# Altium footprint library TSSOP封装.PcbLib: 26 footprints (part 1 of 2)
Each footprint in its own frame and in the unit in brackets; x right, y up, seen from the top. Pads: shape width x height; smd on the part's side, far side on the other; paste and mask are expansions set on the pad; w line width, h text height; cw(c..) or ccw(c..) is an arc to the next point about the centre after c.
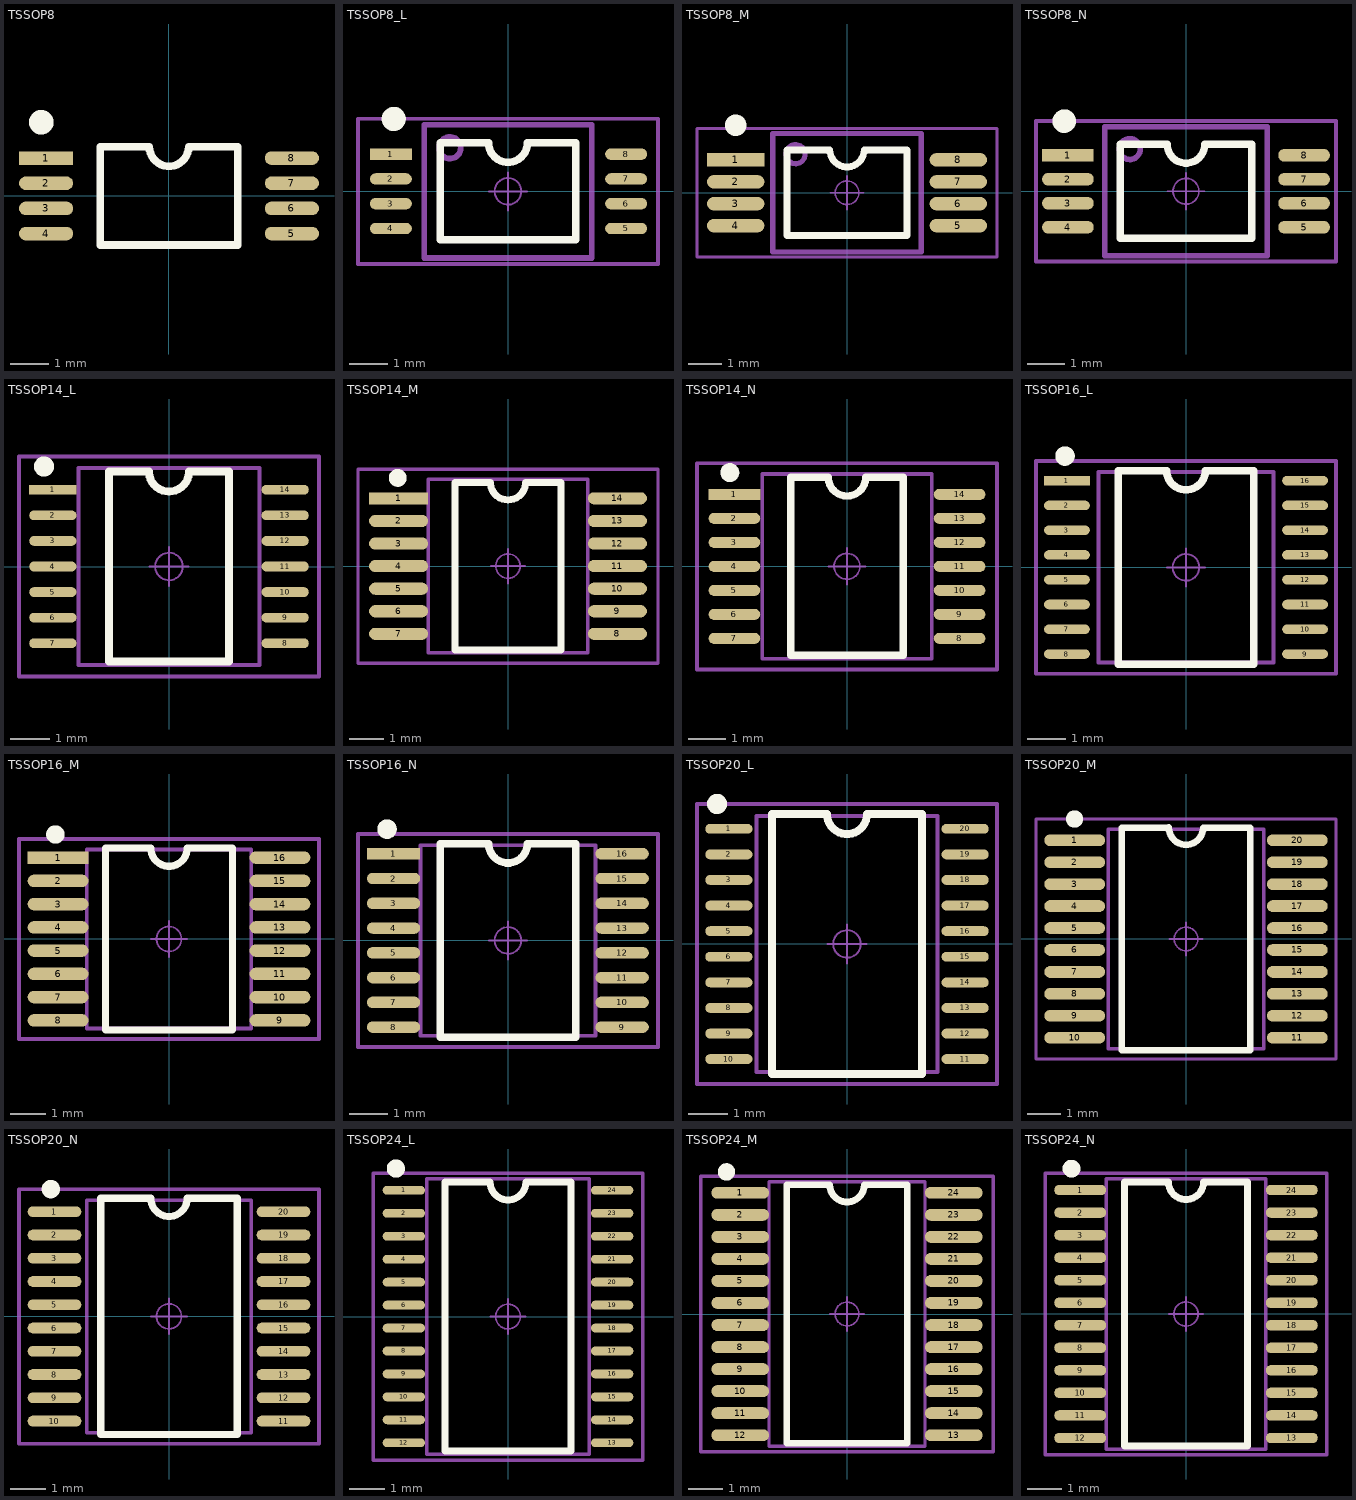
[diagram p0: the footprints below, top view; thin cyan lines are the x and y axes]

## TSSOP8 [mm] "3*6.4*1.2mm 封装库来自公众号：智芯Player"
pads (8):
  rect 1.4x0.35 smd: 1(-3.175,0.975)
  oval 1.4x0.35 smd: 2(-3.175,0.325) 3(-3.175,-0.325) 4(-3.175,-0.975) 5(3.175,-0.975) 6(3.175,-0.325) 7(3.175,0.325) 8(3.175,0.975)
Top Overlay:
  circle w0.381: c-3.3,1.9 r0.127
  lines w0.2: -1.778,-1.27 -1.778,1.27 -0.508,1.27 ccw(c0,1.27) 0.508,1.27 1.778,1.27 1.778,-1.27 -1.778,-1.27
3D body "User Library-TSS0P8.STEP": height 1.09, standoff 0, extent -3.112,-1.59 3.168,1.41

## TSSOP8_L [mm] "3*6.4*1.2mm（长宽高） 封装库来自公众号：智芯Player"
pads (8):
  rect 1.1x0.3 smd: 1(-3.087,0.975)
  oval 1.1x0.3 smd: 2(-3.087,0.325) 3(-3.087,-0.325) 4(-3.087,-0.975) 5(3.087,-0.975) 6(3.087,-0.325) 7(3.087,0.325) 8(3.087,0.975)
Top Overlay:
  circle w0.381: c-3.012,1.9 r0.127
  lines w0.2: -1.79,-1.27 -1.79,1.27 -0.52,1.27 ccw(c-0.012,1.27) 0.496,1.27 1.766,1.27 1.766,-1.27 -1.79,-1.27
Mechanical 13:
  circle w0.15: c-1.536,1.143 r0.284
  lines w0.15: -2.213,-1.75 -2.213,1.75 2.188,1.75 2.188,-1.75 -2.213,-1.75
Mechanical 15:
  circle w0.05: c-0.012,0 r0.35
  lines w0.05: -0.512,0 0.487,0 ; -0.012,-0.5 -0.012,0.5
  lines w0.1: -3.949,-1.905 3.925,-1.905 3.925,1.905 -3.949,1.905 -3.949,-1.905
3D body "User Library-TSS0P8.STEP": height 1.09, standoff 0, extent -3.099,-1.59 3.181,1.41

## TSSOP8_M [mm] "3*6.4*1.2mm（长宽高）   封装库来自公众号：智芯Player"
pads (8):
  rect 1.7x0.4 smd: 1(-3.3,0.975)
  oval 1.7x0.4 smd: 2(-3.3,0.325) 3(-3.3,-0.325) 4(-3.3,-0.975) 5(3.3,-0.975) 6(3.3,-0.325) 7(3.3,0.325) 8(3.3,0.975)
Top Overlay:
  circle w0.381: c-3.3,2 r0.127
  lines w0.2: -1.778,-1.27 1.778,-1.27 1.778,1.27 0.508,1.27 cw(c0,1.27) -0.508,1.27 -1.778,1.27 -1.778,-1.27
Mechanical 13:
  circle w0.15: c-1.524,1.143 r0.284
  lines w0.15: -2.2,-1.75 -2.2,1.75 2.2,1.75 2.2,-1.75 -2.2,-1.75
Mechanical 15:
  circle w0.05: c0,0 r0.35
  lines w0.05: -0.5,0 0.5,0 ; 0,-0.5 0,0.5
  lines w0.1: -4.445,-1.905 -4.445,1.905 4.445,1.905 4.445,-1.905 -4.445,-1.905
3D body "User Library-TSS0P8.STEP": height 1.09, standoff 0, extent -3.188,-1.565 3.092,1.435

## TSSOP8_N [mm] "3*6.4*1.2mm（长宽高）封装库来自公众号：智芯Player"
pads (8):
  rect 1.4x0.35 smd: 1(-3.2,0.975)
  oval 1.4x0.35 smd: 2(-3.2,0.325) 3(-3.2,-0.325) 4(-3.2,-0.975) 5(3.2,-0.975) 6(3.2,-0.325) 7(3.2,0.325) 8(3.2,0.975)
Top Overlay:
  circle w0.381: c-3.3,1.9 r0.127
  lines w0.2: -1.778,-1.27 1.778,-1.27 1.778,1.27 0.508,1.27 cw(c0,1.27) -0.508,1.27 -1.778,1.27 -1.778,-1.27
Mechanical 13:
  circle w0.15: c-1.524,1.143 r0.284
  lines w0.15: -2.2,-1.75 2.2,-1.75 2.2,1.75 -2.2,1.75 -2.2,-1.75
Mechanical 15:
  circle w0.05: c0,0 r0.35
  lines w0.05: -0.5,0 0.5,0 ; 0,-0.5 0,0.5
  lines w0.1: -4.064,-1.905 -4.064,1.905 4.064,1.905 4.064,-1.905 3.429,-1.905 -4.064,-1.905
3D body "User Library-TSS0P8.STEP": height 1.09, standoff 0, extent -3.137,-1.565 3.143,1.435

## TSSOP14_L [mm] "5*6.4*1mm（长宽高）封装库来自公众号：智芯Player"
pads (14):
  rect 1.2x0.25 smd: 1(-2.95,1.95)
  oval 1.2x0.25 smd: 2(-2.95,1.3) 3(-2.95,0.65) 4(-2.95,0) 5(-2.95,-0.65) 6(-2.95,-1.3) 7(-2.95,-1.95) 8(2.95,-1.95) 9(2.95,-1.3) 10(2.95,-0.65) 11(2.95,0) 12(2.95,0.65) 13(2.95,1.3) 14(2.95,1.95)
Top Overlay:
  circle w0.254: c-3.175,2.54 r0.13
  lines w0.2: -0.508,2.413 -1.524,2.413 -1.524,-2.413 1.524,-2.413 1.524,2.413 0.508,2.413 ; -0.506,2.373 ccw(c0,2.413) 0.506,2.373
Mechanical 13:
  lines w0.1: -2.3,-2.5 2.3,-2.5 2.3,2.5 -2.3,2.5 -2.3,-2.5
Mechanical 15:
  circle w0.05: c0,0 r0.35
  lines w0.05: -0.5,0 0.5,0 ; 0,-0.5 0,0.5
  lines w0.1: -3.81,-2.794 3.81,-2.794 3.81,2.794 -3.81,2.794 -3.81,-2.794
3D body "TSSOP14.STEP": height 1.03, standoff -0.02, extent -3.202,-2.5 3.202,2.5

## TSSOP14_M [mm] "5*6.4*1mm（长宽高）封装库来自公众号：智芯Player"
pads (14):
  rect 1.7x0.35 smd: 1(-3.15,1.95)
  oval 1.7x0.35 smd: 2(-3.15,1.3) 3(-3.15,0.65) 4(-3.15,0) 5(-3.15,-0.65) 6(-3.15,-1.3) 7(-3.15,-1.95) 8(3.15,-1.95) 9(3.15,-1.3) 10(3.15,-0.65) 11(3.15,0) 12(3.15,0.65) 13(3.15,1.3) 14(3.15,1.95)
Top Overlay:
  circle w0.254: c-3.175,2.54 r0.13
  lines w0.2: -0.508,2.413 -1.524,2.413 -1.524,-2.413 1.524,-2.413 1.524,2.413 0.508,2.413 ; -0.506,2.373 ccw(c0,2.413) 0.506,2.373
Mechanical 13:
  lines w0.1: -2.3,-2.5 -2.3,2.5 2.3,2.5 2.3,-2.5 -2.3,-2.5
Mechanical 15:
  circle w0.05: c0,0 r0.35
  lines w0.05: -0.5,0 0.5,0 ; 0,-0.5 0,0.5
  lines w0.1: -4.318,-2.794 -4.318,2.794 4.318,2.794 4.318,-2.794 -4.318,-2.794
3D body "TSSOP14.STEP": height 1.03, standoff -0.02, extent -3.202,-2.5 3.202,2.5

## TSSOP14_N [mm] "5*6.4*1mm（长宽高）封装库来自公众号：智芯Player"
pads (14):
  rect 1.4x0.3 smd: 1(-3.05,1.95)
  oval 1.4x0.3 smd: 2(-3.05,1.3) 3(-3.05,0.65) 4(-3.05,0) 5(-3.05,-0.65) 6(-3.05,-1.3) 7(-3.05,-1.95) 8(3.05,-1.95) 9(3.05,-1.3) 10(3.05,-0.65) 11(3.05,0) 12(3.05,0.65) 13(3.05,1.3) 14(3.05,1.95)
Top Overlay:
  circle w0.254: c-3.175,2.54 r0.13
  lines w0.2: -0.508,2.413 -1.524,2.413 -1.524,-2.413 1.524,-2.413 1.524,2.413 0.508,2.413 ; -0.506,2.373 ccw(c0,2.413) 0.506,2.373
Mechanical 13:
  lines w0.1: -2.3,-2.5 2.3,-2.5 2.3,2.5 -2.3,2.5 -2.3,-2.5
Mechanical 15:
  circle w0.05: c0,0 r0.35
  lines w0.05: -0.5,0 0.5,0 ; 0,-0.5 0,0.5
  lines w0.1: -4.064,-2.794 4.064,-2.794 4.064,2.794 -4.064,2.794 -4.064,-2.794
3D body "TSSOP14.STEP": height 1.03, standoff -0.02, extent -3.202,-2.5 3.202,2.5

## TSSOP16_L [mm] "5*6.4*1mm（长宽高） 封装库来自公众号：智芯Player"
pads (16):
  rect 1.2x0.25 smd: 1(-3.125,2.275)
  oval 1.2x0.25 smd: 2(-3.125,1.625) 3(-3.125,0.975) 4(-3.125,0.325) 5(-3.125,-0.325) 6(-3.125,-0.975) 7(-3.125,-1.625) 8(-3.125,-2.275) 9(3.125,-2.275) 10(3.125,-1.625) 11(3.125,-0.975) 12(3.125,-0.325) 13(3.125,0.325) 14(3.125,0.975) 15(3.125,1.625) 16(3.125,2.275)
Top Overlay:
  circle w0.254: c-3.175,2.921 r0.13
  lines w0.2: -1.778,-2.54 1.778,-2.54 1.778,2.54 0.508,2.54 cw(c0,2.54) -0.508,2.54 -1.778,2.54 -1.778,-2.54
Mechanical 13:
  lines w0.1: -2.3,-2.5 -2.3,2.5 2.3,2.5 2.3,-2.5 -2.3,-2.5
Mechanical 15:
  circle w0.05: c0,0 r0.35
  lines w0.05: -0.5,0 0.5,0 ; 0,-0.5 0,0.5
  lines w0.1: -3.937,-2.794 3.937,-2.794 3.937,2.794 -3.937,2.794 -3.937,-2.794
3D body "TSSOP16.STEP": height 1.03, standoff -0.02, extent -3.202,-2.5 3.202,2.5

## TSSOP16_M [mm] "5*6.4*1mm（长宽高） 封装库来自公众号：智芯Player"
pads (16):
  rect 1.7x0.35 smd: 1(-3.1,2.275)
  oval 1.7x0.35 smd: 2(-3.1,1.625) 3(-3.1,0.975) 4(-3.1,0.325) 5(-3.1,-0.325) 6(-3.1,-0.975) 7(-3.1,-1.625) 8(-3.1,-2.275) 9(3.1,-2.275) 10(3.1,-1.625) 11(3.1,-0.975) 12(3.1,-0.325) 13(3.1,0.325) 14(3.1,0.975) 15(3.1,1.625) 16(3.1,2.275)
Top Overlay:
  circle w0.254: c-3.175,2.921 r0.13
  lines w0.2: -1.778,-2.54 -1.778,2.54 -0.508,2.54 ccw(c0,2.54) 0.508,2.54 1.778,2.54 1.778,-2.54 -1.778,-2.54
Mechanical 13:
  lines w0.1: -2.3,-2.5 2.3,-2.5 2.3,2.5 -2.3,2.5 -2.3,-2.5
Mechanical 15:
  circle w0.05: c0,0 r0.35
  lines w0.05: -0.5,0 0.5,0 ; 0,-0.5 0,0.5
  lines w0.1: -4.191,-2.794 4.191,-2.794 4.191,2.794 -4.191,2.794 -4.191,-2.794
3D body "TSSOP16.STEP": height 1.03, standoff -0.02, extent -3.202,-2.5 3.202,2.5

## TSSOP16_N [mm] "5*6.4*1mm（长宽高） 封装库来自公众号：智芯Player"
pads (16):
  rect 1.4x0.3 smd: 1(-3.004,2.275)
  oval 1.4x0.3 smd: 2(-3.004,1.625) 3(-3.004,0.975) 4(-3.004,0.325) 5(-3.004,-0.325) 6(-3.004,-0.975) 7(-3.004,-1.625) 8(-3.004,-2.275) 9(2.996,-2.275) 10(2.996,-1.625) 11(2.996,-0.975) 12(2.996,-0.325) 13(2.996,0.325) 14(2.996,0.975) 15(2.996,1.625) 16(2.996,2.275)
Top Overlay:
  circle w0.254: c-3.175,2.921 r0.13
  lines w0.2: -1.778,-2.54 -1.778,2.54 -0.508,2.54 ccw(c0,2.54) 0.508,2.54 1.778,2.54 1.778,-2.54 -1.778,-2.54
Mechanical 13:
  lines w0.1: -2.3,-2.5 -2.3,2.5 2.3,2.5 2.3,-2.5 -2.3,-2.5
Mechanical 15:
  circle w0.05: c0,0 r0.35
  lines w0.05: -0.5,0 0.5,0 ; 0,-0.5 0,0.5
  lines w0.1: -3.937,-2.794 3.937,-2.794 3.937,2.794 -3.937,2.794 -3.937,-2.794
3D body "TSSOP16.STEP": height 1.03, standoff -0.02, extent -3.202,-2.5 3.202,2.5

## TSSOP20_L [mm] "6.5*6.4*1（长宽高） 封装库来自公众号：智芯Player"
height 1.2
pads (20):
  oval 1.2x0.25 smd: 1(-3,2.925) 2(-3,2.275) 3(-3,1.625) 4(-3,0.975) 5(-3,0.325) 6(-3,-0.325) 7(-3,-0.975) 8(-3,-1.625) 9(-3,-2.275) 10(-3,-2.925) 11(3,-2.925) 12(3,-2.275) 13(3,-1.625) 14(3,-0.975) 15(3,-0.325) 16(3,0.325) 17(3,0.975) 18(3,1.625) 19(3,2.275) 20(3,2.925)
Top Overlay:
  circle w0.254: c-3.302,3.556 r0.13
  lines w0.2: -1.905,-3.3 1.905,-3.3 1.905,3.3 0.508,3.3 cw(c0,3.3) -0.508,3.302 -1.905,3.299 -1.905,-3.3
Mechanical 13:
  lines w0.1: -2.3,-3.25 -2.3,3.25 2.3,3.25 2.3,-3.25 -2.3,-3.25
Mechanical 15:
  circle w0.05: c0,0 r0.35
  lines w0.05: -0.5,0 0.5,0 ; 0,-0.5 0,0.5
  lines w0.1: -3.81,-3.556 -3.81,3.556 3.81,3.556 3.81,-3.556 -3.81,-3.556
3D body "TSSOP20.STEP": height 1.03, standoff -0.02, extent -3.202,-3.25 3.202,3.25

## TSSOP20_M [mm] "6.5*6.4*1（长宽高） 封装库来自公众号：智芯Player"
height 1.2
pads (20):
  oval 1.8x0.35 smd: 1(-3.3,2.925) 2(-3.3,2.275) 3(-3.3,1.625) 4(-3.3,0.975) 5(-3.3,0.325) 6(-3.3,-0.325) 7(-3.3,-0.975) 8(-3.3,-1.625) 9(-3.3,-2.275) 10(-3.3,-2.925) 11(3.3,-2.925) 12(3.3,-2.275) 13(3.3,-1.625) 14(3.3,-0.975) 15(3.3,-0.325) 16(3.3,0.325) 17(3.3,0.975) 18(3.3,1.625) 19(3.3,2.275) 20(3.3,2.925)
Top Overlay:
  circle w0.254: c-3.302,3.556 r0.13
  lines w0.2: -1.905,-3.3 1.905,-3.3 1.905,3.3 0.508,3.3 cw(c0,3.3) -0.508,3.302 -1.905,3.299 -1.905,-3.3
Mechanical 13:
  lines w0.1: -2.3,-3.25 2.3,-3.25 2.3,3.25 -2.3,3.25 -2.3,-3.25
Mechanical 15:
  circle w0.05: c0,0 r0.35
  lines w0.05: -0.5,0 0.5,0 ; 0,-0.5 0,0.5
  lines w0.1: -4.445,-3.556 -4.445,3.556 4.445,3.556 4.445,-3.556 -4.445,-3.556
3D body "TSSOP20.STEP": height 1.03, standoff -0.02, extent -3.202,-3.25 3.202,3.25

## TSSOP20_N [mm] "6.5*6.4*1（长宽高） 封装库来自公众号：智芯Player"
height 1.2
pads (20):
  oval 1.5x0.3 smd: 1(-3.2,2.925) 2(-3.2,2.275) 3(-3.2,1.625) 4(-3.2,0.975) 5(-3.2,0.325) 6(-3.2,-0.325) 7(-3.2,-0.975) 8(-3.2,-1.625) 9(-3.2,-2.275) 10(-3.2,-2.925) 11(3.2,-2.925) 12(3.2,-2.275) 13(3.2,-1.625) 14(3.2,-0.975) 15(3.2,-0.325) 16(3.2,0.325) 17(3.2,0.975) 18(3.2,1.625) 19(3.2,2.275) 20(3.2,2.925)
Top Overlay:
  circle w0.254: c-3.302,3.556 r0.13
  lines w0.2: -1.905,-3.3 -1.905,3.299 -0.508,3.302 ccw(c0,3.3) 0.508,3.3 1.905,3.3 1.905,-3.3 -1.905,-3.3
Mechanical 13:
  lines w0.1: -2.3,-3.25 -2.3,3.25 2.3,3.25 2.3,-3.25 -2.3,-3.25
Mechanical 15:
  circle w0.05: c0,0 r0.35
  lines w0.05: -0.5,0 0.5,0 ; 0,-0.5 0,0.5
  lines w0.1: -4.191,-3.556 4.191,-3.556 4.191,3.556 -4.191,3.556 -4.191,-3.556
3D body "TSSOP20.STEP": height 1.03, standoff -0.02, extent -3.202,-3.25 3.202,3.25

## TSSOP24_L [mm] "7.8*6.4*1mm（长宽高） 封装库来自公众号：智芯Player"
pads (24):
  oval 1.2x0.25 smd: 1(-2.95,3.575) 2(-2.95,2.925) 3(-2.95,2.275) 4(-2.95,1.625) 5(-2.95,0.975) 6(-2.95,0.325) 7(-2.95,-0.325) 8(-2.95,-0.975) 9(-2.95,-1.625) 10(-2.95,-2.275) 11(-2.95,-2.925) 12(-2.95,-3.575) 13(2.95,-3.575) 14(2.95,-2.925) 15(2.95,-2.275) 16(2.95,-1.625) 17(2.95,-0.975) 18(2.95,-0.325) 19(2.95,0.325) 20(2.95,0.975) 21(2.95,1.625) 22(2.95,2.275) 23(2.95,2.925) 24(2.95,3.575)
Top Overlay:
  circle w0.254: c-3.175,4.191 r0.13
  lines w0.2: -1.778,-3.81 1.778,-3.81 1.778,3.81 0.508,3.81 cw(c0,3.81) -0.508,3.81 -1.778,3.81 -1.778,-3.81
Mechanical 13:
  lines w0.1: -2.3,-3.9 -2.3,3.9 2.3,3.9 2.3,-3.9 -2.3,-3.9
Mechanical 15:
  circle w0.05: c0,0 r0.35
  lines w0.05: -0.5,0 0.5,0 ; 0,-0.5 0,0.5
  lines w0.1: -3.81,-4.064 -3.81,4.064 3.81,4.064 3.81,-4.064 -3.81,-4.064
3D body "TSSOP24.STEP": height 1.03, standoff -0.02, extent -3.202,-3.9 3.202,3.9

## TSSOP24_M [mm] "7.8*6.4*1mm（长宽高） 封装库来自公众号：智芯Player"
pads (24):
  oval 1.7x0.35 smd: 1(-3.15,3.575) 2(-3.15,2.925) 3(-3.15,2.275) 4(-3.15,1.625) 5(-3.15,0.975) 6(-3.15,0.325) 7(-3.15,-0.325) 8(-3.15,-0.975) 9(-3.15,-1.625) 10(-3.15,-2.275) 11(-3.15,-2.925) 12(-3.15,-3.575) 13(3.15,-3.575) 14(3.15,-2.925) 15(3.15,-2.275) 16(3.15,-1.625) 17(3.15,-0.975) 18(3.15,-0.325) 19(3.15,0.325) 20(3.15,0.975) 21(3.15,1.625) 22(3.15,2.275) 23(3.15,2.925) 24(3.15,3.575)
Top Overlay:
  circle w0.254: c-3.556,4.191 r0.13
  lines w0.2: -1.778,-3.81 -1.778,3.81 -0.508,3.81 ccw(c0,3.81) 0.508,3.81 1.778,3.81 1.778,-3.81 -1.778,-3.81
Mechanical 13:
  lines w0.1: -2.3,-3.9 -2.3,3.9 2.3,3.9 2.3,-3.9 -2.3,-3.9
Mechanical 15:
  circle w0.05: c0,0 r0.35
  lines w0.05: -0.5,0 0.5,0 ; 0,-0.5 0,0.5
  lines w0.1: -4.318,-4.064 -4.318,4.064 4.318,4.064 4.318,-4.064 -4.318,-4.064
3D body "TSSOP24.STEP": height 1.03, standoff -0.02, extent -3.202,-3.9 3.202,3.9

## TSSOP24_N [mm] "7.8*6.4*1mm（长宽高）   封装库来自公众号：智芯Player"
pads (24):
  oval 1.5x0.3 smd: 1(-3.05,3.575) 2(-3.05,2.925) 3(-3.05,2.275) 4(-3.05,1.625) 5(-3.05,0.975) 6(-3.05,0.325) 7(-3.05,-0.325) 8(-3.05,-0.975) 9(-3.05,-1.625) 10(-3.05,-2.275) 11(-3.05,-2.925) 12(-3.05,-3.575) 13(3.05,-3.575) 14(3.05,-2.925) 15(3.05,-2.275) 16(3.05,-1.625) 17(3.05,-0.975) 18(3.05,-0.325) 19(3.05,0.325) 20(3.05,0.975) 21(3.05,1.625) 22(3.05,2.275) 23(3.05,2.925) 24(3.05,3.575)
Top Overlay:
  circle w0.254: c-3.302,4.191 r0.13
  lines w0.2: -1.778,-3.81 1.778,-3.81 1.778,3.81 0.508,3.81 cw(c0,3.81) -0.508,3.81 -1.778,3.81 -1.778,-3.81
Mechanical 13:
  lines w0.1: -2.3,-3.9 2.3,-3.9 2.3,3.9 -2.3,3.9 -2.3,-3.9
Mechanical 15:
  circle w0.05: c0,0 r0.35
  lines w0.05: -0.5,0 0.5,0 ; 0,-0.5 0,0.5
  lines w0.1: -4.064,-4.064 4.064,-4.064 4.064,4.064 -4.064,4.064 -4.064,-4.064
3D body "TSSOP24.STEP": height 1.03, standoff -0.02, extent -3.202,-3.9 3.202,3.9